# Altium footprint library PCB - MICROPHONE - KNOWLES SPV0842LR5H-1.PcbLib: 1 footprints
Each footprint in its own frame and in the unit in brackets; x right, y up, seen from the top. Pads: shape width x height; smd on the part's side, far side on the other; paste and mask are expansions set on the pad; w line width, h text height; cw(c..) or ccw(c..) is an arc to the next point about the centre after c.
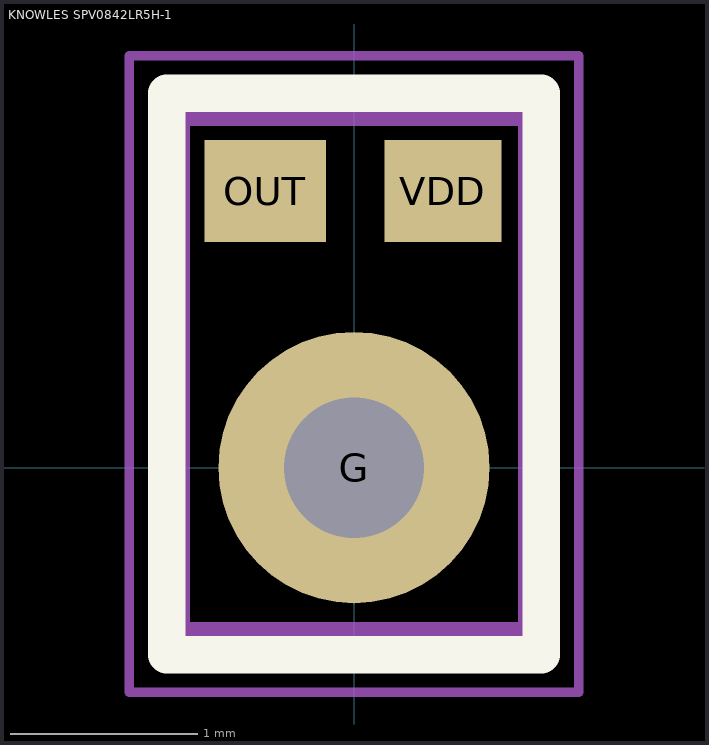
[diagram p0: the footprint, top view; thin cyan lines are the x and y axes]

## KNOWLES SPV0842LR5H-1 [mm] "SiSonicTM Microphone 2.75x1.85mm"
height 1
pads (3):
  round 1.45 hole 0.75 unplated paste+0 mask+0: G(0,0)
  rect 0.65x0.545 smd: OUT(-0.475,1.478)
  rect 0.625x0.545 smd: VDD(0.475,1.478)
Top Overlay:
  lines w0.2: -1,-1 -1,2 1,2 1,-1 -1,-1
Top Paste:
  drawing of 4 lines, arcs and shapes, not listed
Top Solder:
  circle w0.25: c0,0 r0.6
Mechanical 13:
  lines w0.1: -0.925,-0.875 -0.925,1.875 0.925,1.875 0.925,-0.875 -0.925,-0.875
Mechanical 15:
  lines w0.05: -0.5,0 0.5,0 ; 0,-0.5 0,0.5 ; -1.2,-1.2 -1.2,2.2 1.2,2.2 1.2,-1.2 -1.2,-1.2
3D body "Knowles - SPV0842LR5H-1.step": height 1, standoff 0, extent -0.925,-0.875 0.925,1.875